# Altium schematic symbol library SAMTEC-A-TSW-103-07-F-S.SCHLIB: 1 symbol
Pins are listed as number, name and electrical type; pins without a type are passive.

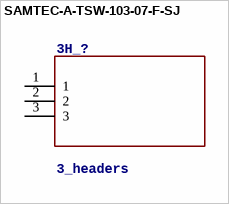
[diagram p0: symbol SAMTEC-A-TSW-103-07-F-SJ]

## SAMTEC-A-TSW-103-07-F-SJ
designator 3H_?, comment 3_headers
CONN HEADER VERT 3POS 2.54MM; Category: Connectors, Interconnects
footprint SAMTEC-A-TSW-103-07-F-S
pins: 1, 2, 3